# Altium schematic symbol library SSW-101-01-T-S.SchLib: 1 symbol
Pins are listed as number, name and electrical type; pins without a type are passive.

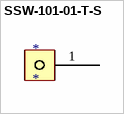
[diagram p0: symbol SSW-101-01-T-S]

## SSW-101-01-T-S
designator *
footprint PCBComponent_1
pins: 1